# Altium integrated library TI Data Converters Analog to Digital Converter.IntLib: 2198 symbols (part 71 of 164)
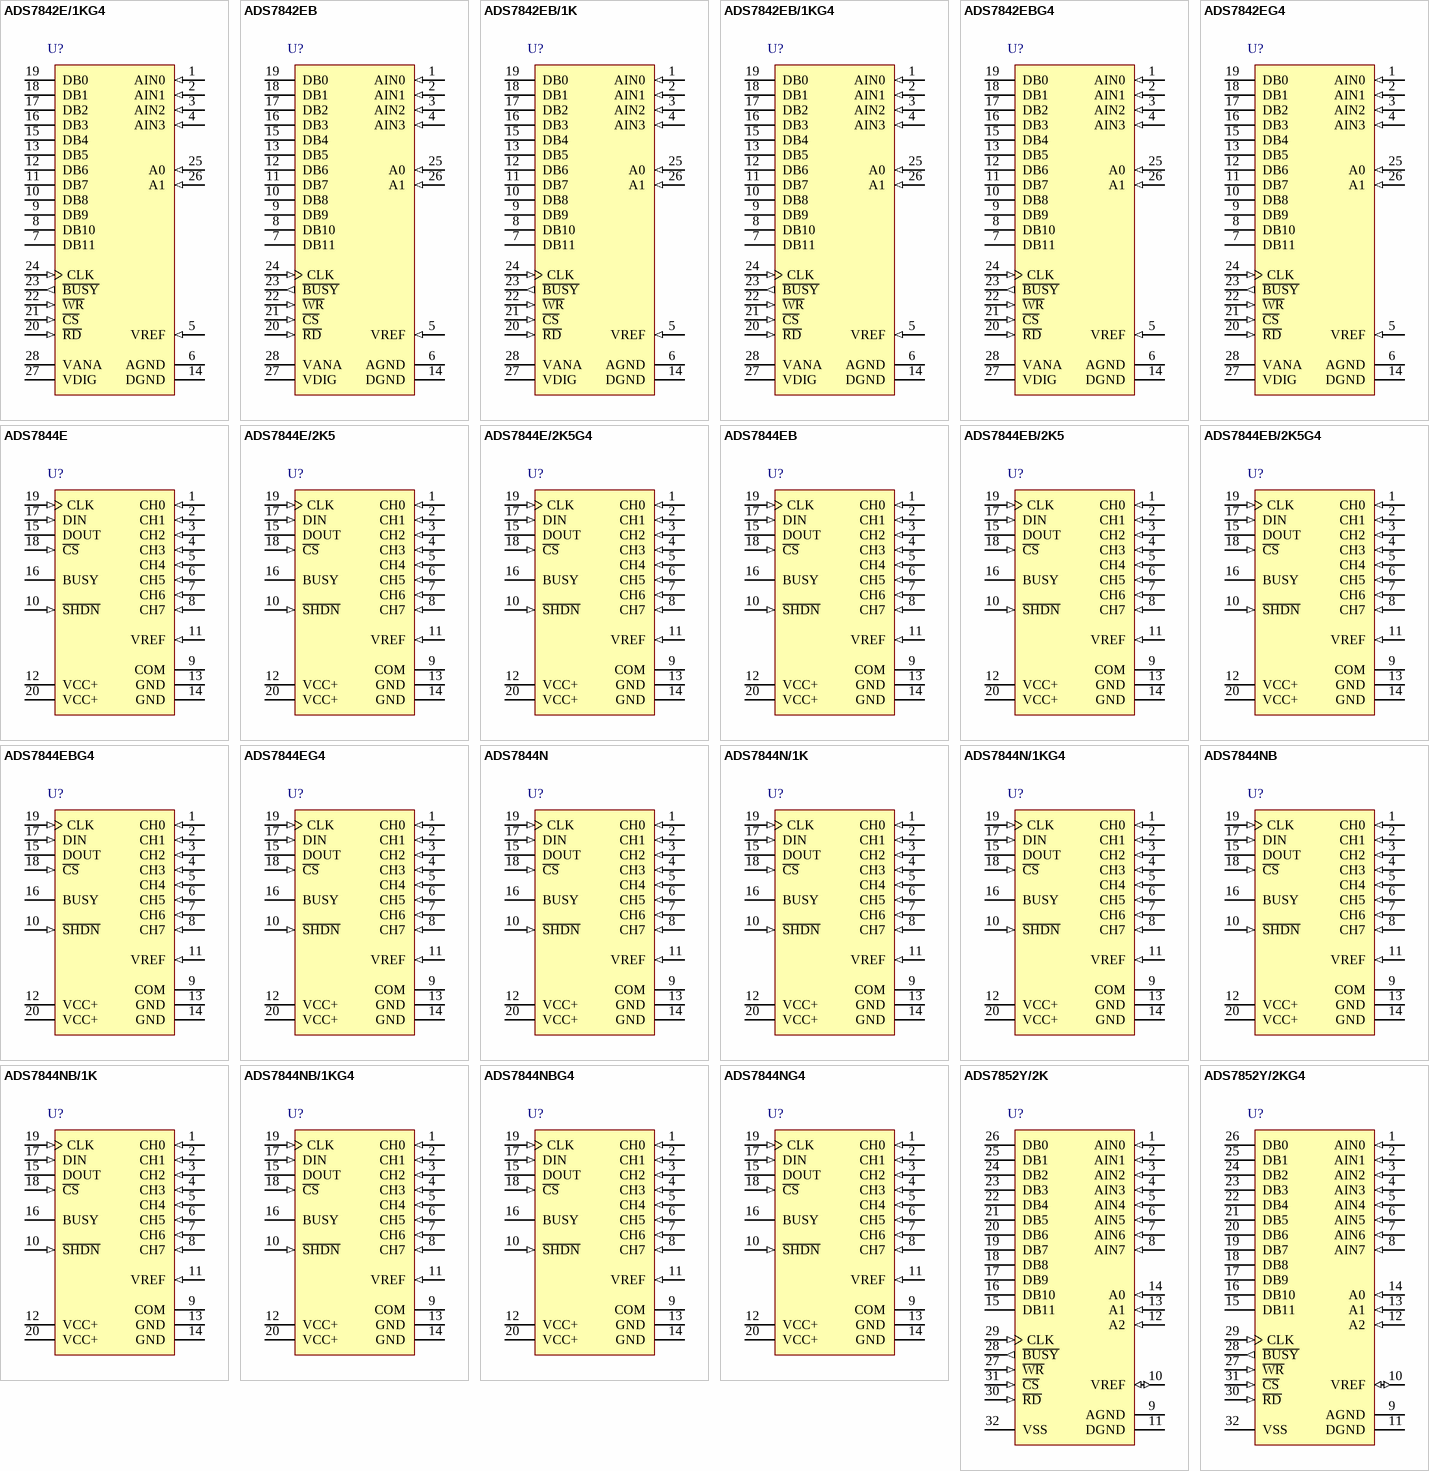
[diagram p196: symbols ADS7842E/1KG4 to ADS7852Y/2KG4]

## ADS7844E
designator U?
12-Bit, 8-Channel Serial Output Sampling ADC, -40 to 85 degC, 20-pin SOP (DBQ20), Green (RoHS & no Sb/Br); Manufacturer: Texas Instruments; PartNumber: ADS7844E; # Input Channels: 8; Analog Voltage AV/DD(Max)(V): 5.25; Analog Voltage AV/DD(Min)(V): 2.7; Architecture: SAR; INL(Max)(+/-LSB): 2; Interface: Serial SPI; Resolution(Bits): 12; Sample Rate (max)(SPS): 200K; SFDR(dB): 76; SINAD(dB): 71; SNR(dB): 72; SubFamily: Precision ADC (<=10MSPS); DatasheetVersion: SBAS100A; PackageVersion: 4073301-3/H, 10/2008; PackageReference: DBQ20; PackageDescription: 20-Pin Plastic Small Outline, Body 8.65 x 3.9 mm, Pitch 0.635 mm; Supplier 1: Digi-Key; Supplier Part Number 1: TLV2548CPWRG4-ND; Digital Supply(Max)(V): 5.25; Digital Supply(Min)(V): 2.7; Eco-Plan: Green (RoHS & no Sb/Br); Mounting Technology: Surface Mount; Code_JEDEC: MO-137; ComponentLink1Description: Manufacturer URL; ComponentLink1URL: http://www.ti.com/; ComponentLink2Description: Datasheet; ComponentLink2URL: http://www.ti.com/general/docs/lit/getliterature.tsp?genericPartNumber=ADS7844&fileType=pdf; ComponentLink3Description: Package Specification; ComponentLink3URL: http://www.ti.com/litv/pdf/mpds210a
footprint TI-DBQ20_N (SOP, 20-Leads, Body 8.65x3.9mm, Pitch 0.635mm, IPC Medium Density)
footprint TI-DBQ20_L (SOP, 20-Leads, Body 8.65x3.9mm, Pitch 0.635mm, IPC High Density)
footprint TI-DBQ20_M (SOP, 20-Leads, Body 8.65x3.9mm, Pitch 0.635mm, IPC Low Density)
pins: 1 CH0 (in) "Analog Input Channel 0.", 2 CH1 (in) "Analog Input Channel 1.", 3 CH2 (in) "Analog Input Channel 2.", 4 CH3 (in) "Analog Input Channel 3.", 5 CH4 (in) "Analog Input Channel 4.", 6 CH5 (in) "Analog Input Channel 5.", 7 CH6 (in) "Analog Input Channel 6.", 8 CH7 (in) "Analog Input Channel 7.", 9 COM (power) "Ground reference for analog inputs. Sets zero code voltage in single ended mode. Connect this pin to ground or ground reference point.", 10 ~{SHDN} (in) "Shutdown. When LOW, the device enters a very low power shutdown mode.", 11 VREF (in) "Voltage Reference Input. See Specification Table for ranges.", 12 VCC+ (power) "Power Supply, 2.7V to 5V.", 13 GND (power) "Ground", 14 GND (power) "Ground", 15 DOUT (hiz) "Serial Data Output. Data is shifted on the falling edge of DCLK. This output is high impedance when C\S\ is high.", 16 BUSY (hiz) "Busy Output. Busy goes low when the DIN control bits are being read and also when the device is converting. The Output is high impedance when C\S\ is High.", 17 DIN (in) "Serial Data Input. If C\S\ is LOW, data is latched on rising edge of DCLK.", 18 ~{CS} (in) "Chip Select Input. Active LOW. Data will not be clocked into DIN unless C\S\ is low. When C\S\ is high DOUT is high impedance", 19 CLK (in) "External Clock Input. The clock speed determines the conversion rate by the equation fCLK = 16 x fSAMPLE.", 20 VCC+ (power) "Power Supply"

## ADS7844E/2K5
designator U?
12-Bit, 8-Channel Serial Output Sampling ADC, -40 to 85 degC, 20-pin SOP (DBQ20), Green (RoHS & no Sb/Br); Manufacturer: Texas Instruments; PartNumber: ADS7844E/2K5; # Input Channels: 8; Analog Voltage AV/DD(Max)(V): 5.25; Analog Voltage AV/DD(Min)(V): 2.7; Architecture: SAR; INL(Max)(+/-LSB): 2; Interface: Serial SPI; Resolution(Bits): 12; Sample Rate (max)(SPS): 200K; SFDR(dB): 76; SINAD(dB): 71; SNR(dB): 72; SubFamily: Precision ADC (<=10MSPS); DatasheetVersion: SBAS100A; PackageVersion: 4073301-3/H, 10/2008; PackageReference: DBQ20; PackageDescription: 20-Pin Plastic Small Outline, Body 8.65 x 3.9 mm, Pitch 0.635 mm; Supplier 1: Digi-Key; Supplier Part Number 1: 296-2986-5-ND; Digital Supply(Max)(V): 5.25; Digital Supply(Min)(V): 2.7; Eco-Plan: Green (RoHS & no Sb/Br); Mounting Technology: Surface Mount; Code_JEDEC: MO-137; ComponentLink1Description: Manufacturer URL; ComponentLink1URL: http://www.ti.com/; ComponentLink2Description: Datasheet; ComponentLink2URL: http://www.ti.com/general/docs/lit/getliterature.tsp?genericPartNumber=ADS7844&fileType=pdf; ComponentLink3Description: Package Specification; ComponentLink3URL: http://www.ti.com/litv/pdf/mpds210a
footprint TI-DBQ20_N (SOP, 20-Leads, Body 8.65x3.9mm, Pitch 0.635mm, IPC Medium Density)
footprint TI-DBQ20_L (SOP, 20-Leads, Body 8.65x3.9mm, Pitch 0.635mm, IPC High Density)
footprint TI-DBQ20_M (SOP, 20-Leads, Body 8.65x3.9mm, Pitch 0.635mm, IPC Low Density)
pins: 1 CH0 (in) "Analog Input Channel 0.", 2 CH1 (in) "Analog Input Channel 1.", 3 CH2 (in) "Analog Input Channel 2.", 4 CH3 (in) "Analog Input Channel 3.", 5 CH4 (in) "Analog Input Channel 4.", 6 CH5 (in) "Analog Input Channel 5.", 7 CH6 (in) "Analog Input Channel 6.", 8 CH7 (in) "Analog Input Channel 7.", 9 COM (power) "Ground reference for analog inputs. Sets zero code voltage in single ended mode. Connect this pin to ground or ground reference point.", 10 ~{SHDN} (in) "Shutdown. When LOW, the device enters a very low power shutdown mode.", 11 VREF (in) "Voltage Reference Input. See Specification Table for ranges.", 12 VCC+ (power) "Power Supply, 2.7V to 5V.", 13 GND (power) "Ground", 14 GND (power) "Ground", 15 DOUT (hiz) "Serial Data Output. Data is shifted on the falling edge of DCLK. This output is high impedance when C\S\ is high.", 16 BUSY (hiz) "Busy Output. Busy goes low when the DIN control bits are being read and also when the device is converting. The Output is high impedance when C\S\ is High.", 17 DIN (in) "Serial Data Input. If C\S\ is LOW, data is latched on rising edge of DCLK.", 18 ~{CS} (in) "Chip Select Input. Active LOW. Data will not be clocked into DIN unless C\S\ is low. When C\S\ is high DOUT is high impedance", 19 CLK (in) "External Clock Input. The clock speed determines the conversion rate by the equation fCLK = 16 x fSAMPLE.", 20 VCC+ (power) "Power Supply"

## ADS7844E/2K5G4
designator U?
12-Bit, 8-Channel Serial Output Sampling ADC, -40 to 85 degC, 20-pin SOP (DBQ20), Green (RoHS & no Sb/Br); Manufacturer: Texas Instruments; PartNumber: ADS7844E/2K5G4; # Input Channels: 8; Analog Voltage AV/DD(Max)(V): 5.25; Analog Voltage AV/DD(Min)(V): 2.7; Architecture: SAR; INL(Max)(+/-LSB): 2; Interface: Serial SPI; Resolution(Bits): 12; Sample Rate (max)(SPS): 200K; SFDR(dB): 76; SINAD(dB): 71; SNR(dB): 72; SubFamily: Precision ADC (<=10MSPS); DatasheetVersion: SBAS100A; PackageVersion: 4073301-3/H, 10/2008; PackageReference: DBQ20; PackageDescription: 20-Pin Plastic Small Outline, Body 8.65 x 3.9 mm, Pitch 0.635 mm; Supplier 1: Digi-Key; Supplier Part Number 1: TLV2548IDWG4-ND; Digital Supply(Max)(V): 5.25; Digital Supply(Min)(V): 2.7; Eco-Plan: Green (RoHS & no Sb/Br); Mounting Technology: Surface Mount; Code_JEDEC: MO-137; ComponentLink1Description: Manufacturer URL; ComponentLink1URL: http://www.ti.com/; ComponentLink2Description: Datasheet; ComponentLink2URL: http://www.ti.com/general/docs/lit/getliterature.tsp?genericPartNumber=ADS7844&fileType=pdf; ComponentLink3Description: Package Specification; ComponentLink3URL: http://www.ti.com/litv/pdf/mpds210a
footprint TI-DBQ20_N (SOP, 20-Leads, Body 8.65x3.9mm, Pitch 0.635mm, IPC Medium Density)
footprint TI-DBQ20_L (SOP, 20-Leads, Body 8.65x3.9mm, Pitch 0.635mm, IPC High Density)
footprint TI-DBQ20_M (SOP, 20-Leads, Body 8.65x3.9mm, Pitch 0.635mm, IPC Low Density)
pins: 1 CH0 (in) "Analog Input Channel 0.", 2 CH1 (in) "Analog Input Channel 1.", 3 CH2 (in) "Analog Input Channel 2.", 4 CH3 (in) "Analog Input Channel 3.", 5 CH4 (in) "Analog Input Channel 4.", 6 CH5 (in) "Analog Input Channel 5.", 7 CH6 (in) "Analog Input Channel 6.", 8 CH7 (in) "Analog Input Channel 7.", 9 COM (power) "Ground reference for analog inputs. Sets zero code voltage in single ended mode. Connect this pin to ground or ground reference point.", 10 ~{SHDN} (in) "Shutdown. When LOW, the device enters a very low power shutdown mode.", 11 VREF (in) "Voltage Reference Input. See Specification Table for ranges.", 12 VCC+ (power) "Power Supply, 2.7V to 5V.", 13 GND (power) "Ground", 14 GND (power) "Ground", 15 DOUT (hiz) "Serial Data Output. Data is shifted on the falling edge of DCLK. This output is high impedance when C\S\ is high.", 16 BUSY (hiz) "Busy Output. Busy goes low when the DIN control bits are being read and also when the device is converting. The Output is high impedance when C\S\ is High.", 17 DIN (in) "Serial Data Input. If C\S\ is LOW, data is latched on rising edge of DCLK.", 18 ~{CS} (in) "Chip Select Input. Active LOW. Data will not be clocked into DIN unless C\S\ is low. When C\S\ is high DOUT is high impedance", 19 CLK (in) "External Clock Input. The clock speed determines the conversion rate by the equation fCLK = 16 x fSAMPLE.", 20 VCC+ (power) "Power Supply"

## ADS7844EB
designator U?
12-Bit, 8-Channel Serial Output Sampling ADC, -40 to 85 degC, 20-pin SOP (DBQ20), Green (RoHS & no Sb/Br); Manufacturer: Texas Instruments; PartNumber: ADS7844EB; # Input Channels: 8; Analog Voltage AV/DD(Max)(V): 5.25; Analog Voltage AV/DD(Min)(V): 2.7; Architecture: SAR; INL(Max)(+/-LSB): 1; Interface: Serial SPI; Resolution(Bits): 12; Sample Rate (max)(SPS): 200K; SFDR(dB): 78; SINAD(dB): 72; SubFamily: Precision ADC (<=10MSPS); DatasheetVersion: SBAS100A; PackageVersion: 4073301-3/H, 10/2008; PackageReference: DBQ20; PackageDescription: 20-Pin Plastic Small Outline, Body 8.65 x 3.9 mm, Pitch 0.635 mm; Supplier 1: Digi-Key; Supplier Part Number 1: TLV2548IDWR-ND; Digital Supply(Max)(V): 5.25; Digital Supply(Min)(V): 2.7; Eco-Plan: Green (RoHS & no Sb/Br); SNR(dB): 72; Mounting Technology: Surface Mount; Code_JEDEC: MO-137; ComponentLink1Description: Manufacturer URL; ComponentLink1URL: http://www.ti.com/; ComponentLink2Description: Datasheet; ComponentLink2URL: http://www.ti.com/general/docs/lit/getliterature.tsp?genericPartNumber=ADS7844&fileType=pdf; ComponentLink3Description: Package Specification; ComponentLink3URL: http://www.ti.com/litv/pdf/mpds210a
footprint TI-DBQ20_N (SOP, 20-Leads, Body 8.65x3.9mm, Pitch 0.635mm, IPC Medium Density)
footprint TI-DBQ20_L (SOP, 20-Leads, Body 8.65x3.9mm, Pitch 0.635mm, IPC High Density)
footprint TI-DBQ20_M (SOP, 20-Leads, Body 8.65x3.9mm, Pitch 0.635mm, IPC Low Density)
pins: 1 CH0 (in) "Analog Input Channel 0.", 2 CH1 (in) "Analog Input Channel 1.", 3 CH2 (in) "Analog Input Channel 2.", 4 CH3 (in) "Analog Input Channel 3.", 5 CH4 (in) "Analog Input Channel 4.", 6 CH5 (in) "Analog Input Channel 5.", 7 CH6 (in) "Analog Input Channel 6.", 8 CH7 (in) "Analog Input Channel 7.", 9 COM (power) "Ground reference for analog inputs. Sets zero code voltage in single ended mode. Connect this pin to ground or ground reference point.", 10 ~{SHDN} (in) "Shutdown. When LOW, the device enters a very low power shutdown mode.", 11 VREF (in) "Voltage Reference Input. See Specification Table for ranges.", 12 VCC+ (power) "Power Supply, 2.7V to 5V.", 13 GND (power) "Ground", 14 GND (power) "Ground", 15 DOUT (hiz) "Serial Data Output. Data is shifted on the falling edge of DCLK. This output is high impedance when C\S\ is high.", 16 BUSY (hiz) "Busy Output. Busy goes low when the DIN control bits are being read and also when the device is converting. The Output is high impedance when C\S\ is High.", 17 DIN (in) "Serial Data Input. If C\S\ is LOW, data is latched on rising edge of DCLK.", 18 ~{CS} (in) "Chip Select Input. Active LOW. Data will not be clocked into DIN unless C\S\ is low. When C\S\ is high DOUT is high impedance", 19 CLK (in) "External Clock Input. The clock speed determines the conversion rate by the equation fCLK = 16 x fSAMPLE.", 20 VCC+ (power) "Power Supply"

## ADS7844EB/2K5
designator U?
12-Bit, 8-Channel Serial Output Sampling ADC, -40 to 85 degC, 20-pin SOP (DBQ20), Green (RoHS & no Sb/Br); Manufacturer: Texas Instruments; PartNumber: ADS7844EB/2K5; # Input Channels: 8; Analog Voltage AV/DD(Max)(V): 5.25; Analog Voltage AV/DD(Min)(V): 2.7; Architecture: SAR; INL(Max)(+/-LSB): 1; Interface: Serial SPI; Resolution(Bits): 12; Sample Rate (max)(SPS): 200K; SFDR(dB): 78; SINAD(dB): 72; SubFamily: Precision ADC (<=10MSPS); DatasheetVersion: SBAS100A; PackageVersion: 4073301-3/H, 10/2008; PackageReference: DBQ20; PackageDescription: 20-Pin Plastic Small Outline, Body 8.65 x 3.9 mm, Pitch 0.635 mm; Supplier 1: Digi-Key; Supplier Part Number 1: TLV2548IDWRG4-ND; Digital Supply(Max)(V): 5.25; Digital Supply(Min)(V): 2.7; Eco-Plan: Green (RoHS & no Sb/Br); SNR(dB): 72; Mounting Technology: Surface Mount; Code_JEDEC: MO-137; ComponentLink1Description: Manufacturer URL; ComponentLink1URL: http://www.ti.com/; ComponentLink2Description: Datasheet; ComponentLink2URL: http://www.ti.com/general/docs/lit/getliterature.tsp?genericPartNumber=ADS7844&fileType=pdf; ComponentLink3Description: Package Specification; ComponentLink3URL: http://www.ti.com/litv/pdf/mpds210a
footprint TI-DBQ20_N (SOP, 20-Leads, Body 8.65x3.9mm, Pitch 0.635mm, IPC Medium Density)
footprint TI-DBQ20_L (SOP, 20-Leads, Body 8.65x3.9mm, Pitch 0.635mm, IPC High Density)
footprint TI-DBQ20_M (SOP, 20-Leads, Body 8.65x3.9mm, Pitch 0.635mm, IPC Low Density)
pins: 1 CH0 (in) "Analog Input Channel 0.", 2 CH1 (in) "Analog Input Channel 1.", 3 CH2 (in) "Analog Input Channel 2.", 4 CH3 (in) "Analog Input Channel 3.", 5 CH4 (in) "Analog Input Channel 4.", 6 CH5 (in) "Analog Input Channel 5.", 7 CH6 (in) "Analog Input Channel 6.", 8 CH7 (in) "Analog Input Channel 7.", 9 COM (power) "Ground reference for analog inputs. Sets zero code voltage in single ended mode. Connect this pin to ground or ground reference point.", 10 ~{SHDN} (in) "Shutdown. When LOW, the device enters a very low power shutdown mode.", 11 VREF (in) "Voltage Reference Input. See Specification Table for ranges.", 12 VCC+ (power) "Power Supply, 2.7V to 5V.", 13 GND (power) "Ground", 14 GND (power) "Ground", 15 DOUT (hiz) "Serial Data Output. Data is shifted on the falling edge of DCLK. This output is high impedance when C\S\ is high.", 16 BUSY (hiz) "Busy Output. Busy goes low when the DIN control bits are being read and also when the device is converting. The Output is high impedance when C\S\ is High.", 17 DIN (in) "Serial Data Input. If C\S\ is LOW, data is latched on rising edge of DCLK.", 18 ~{CS} (in) "Chip Select Input. Active LOW. Data will not be clocked into DIN unless C\S\ is low. When C\S\ is high DOUT is high impedance", 19 CLK (in) "External Clock Input. The clock speed determines the conversion rate by the equation fCLK = 16 x fSAMPLE.", 20 VCC+ (power) "Power Supply"

## ADS7844EB/2K5G4
designator U?
12-Bit, 8-Channel Serial Output Sampling ADC, -40 to 85 degC, 20-pin SOP (DBQ20), Green (RoHS & no Sb/Br); Manufacturer: Texas Instruments; PartNumber: ADS7844EB/2K5G4; # Input Channels: 8; Analog Voltage AV/DD(Max)(V): 5.25; Analog Voltage AV/DD(Min)(V): 2.7; Architecture: SAR; INL(Max)(+/-LSB): 1; Interface: Serial SPI; Resolution(Bits): 12; Sample Rate (max)(SPS): 200K; SFDR(dB): 78; SINAD(dB): 72; SubFamily: Precision ADC (<=10MSPS); DatasheetVersion: SBAS100A; PackageVersion: 4073301-3/H, 10/2008; PackageReference: DBQ20; PackageDescription: 20-Pin Plastic Small Outline, Body 8.65 x 3.9 mm, Pitch 0.635 mm; Supplier 1: Digi-Key; Supplier Part Number 1: 296-2987-5-ND; Digital Supply(Max)(V): 5.25; Digital Supply(Min)(V): 2.7; Eco-Plan: Green (RoHS & no Sb/Br); SNR(dB): 72; Mounting Technology: Surface Mount; Code_JEDEC: MO-137; ComponentLink1Description: Manufacturer URL; ComponentLink1URL: http://www.ti.com/; ComponentLink2Description: Datasheet; ComponentLink2URL: http://www.ti.com/general/docs/lit/getliterature.tsp?genericPartNumber=ADS7844&fileType=pdf; ComponentLink3Description: Package Specification; ComponentLink3URL: http://www.ti.com/litv/pdf/mpds210a
footprint TI-DBQ20_N (SOP, 20-Leads, Body 8.65x3.9mm, Pitch 0.635mm, IPC Medium Density)
footprint TI-DBQ20_L (SOP, 20-Leads, Body 8.65x3.9mm, Pitch 0.635mm, IPC High Density)
footprint TI-DBQ20_M (SOP, 20-Leads, Body 8.65x3.9mm, Pitch 0.635mm, IPC Low Density)
pins: 1 CH0 (in) "Analog Input Channel 0.", 2 CH1 (in) "Analog Input Channel 1.", 3 CH2 (in) "Analog Input Channel 2.", 4 CH3 (in) "Analog Input Channel 3.", 5 CH4 (in) "Analog Input Channel 4.", 6 CH5 (in) "Analog Input Channel 5.", 7 CH6 (in) "Analog Input Channel 6.", 8 CH7 (in) "Analog Input Channel 7.", 9 COM (power) "Ground reference for analog inputs. Sets zero code voltage in single ended mode. Connect this pin to ground or ground reference point.", 10 ~{SHDN} (in) "Shutdown. When LOW, the device enters a very low power shutdown mode.", 11 VREF (in) "Voltage Reference Input. See Specification Table for ranges.", 12 VCC+ (power) "Power Supply, 2.7V to 5V.", 13 GND (power) "Ground", 14 GND (power) "Ground", 15 DOUT (hiz) "Serial Data Output. Data is shifted on the falling edge of DCLK. This output is high impedance when C\S\ is high.", 16 BUSY (hiz) "Busy Output. Busy goes low when the DIN control bits are being read and also when the device is converting. The Output is high impedance when C\S\ is High.", 17 DIN (in) "Serial Data Input. If C\S\ is LOW, data is latched on rising edge of DCLK.", 18 ~{CS} (in) "Chip Select Input. Active LOW. Data will not be clocked into DIN unless C\S\ is low. When C\S\ is high DOUT is high impedance", 19 CLK (in) "External Clock Input. The clock speed determines the conversion rate by the equation fCLK = 16 x fSAMPLE.", 20 VCC+ (power) "Power Supply"

## ADS7844EBG4
designator U?
12-Bit, 8-Channel Serial Output Sampling ADC, -40 to 85 degC, 20-pin SOP (DBQ20), Green (RoHS & no Sb/Br); Manufacturer: Texas Instruments; PartNumber: ADS7844EBG4; # Input Channels: 8; Analog Voltage AV/DD(Max)(V): 5.25; Analog Voltage AV/DD(Min)(V): 2.7; Architecture: SAR; INL(Max)(+/-LSB): 1; Interface: Serial SPI; Resolution(Bits): 12; Sample Rate (max)(SPS): 200K; SFDR(dB): 78; SINAD(dB): 72; SubFamily: Precision ADC (<=10MSPS); DatasheetVersion: SBAS100A; PackageVersion: 4073301-3/H, 10/2008; PackageReference: DBQ20; PackageDescription: 20-Pin Plastic Small Outline, Body 8.65 x 3.9 mm, Pitch 0.635 mm; Supplier 1: Digi-Key; Supplier Part Number 1: TLV2548IPWG4-ND; Digital Supply(Max)(V): 5.25; Digital Supply(Min)(V): 2.7; Eco-Plan: Green (RoHS & no Sb/Br); SNR(dB): 72; Mounting Technology: Surface Mount; Code_JEDEC: MO-137; ComponentLink1Description: Manufacturer URL; ComponentLink1URL: http://www.ti.com/; ComponentLink2Description: Datasheet; ComponentLink2URL: http://www.ti.com/general/docs/lit/getliterature.tsp?genericPartNumber=ADS7844&fileType=pdf; ComponentLink3Description: Package Specification; ComponentLink3URL: http://www.ti.com/litv/pdf/mpds210a
footprint TI-DBQ20_N (SOP, 20-Leads, Body 8.65x3.9mm, Pitch 0.635mm, IPC Medium Density)
footprint TI-DBQ20_L (SOP, 20-Leads, Body 8.65x3.9mm, Pitch 0.635mm, IPC High Density)
footprint TI-DBQ20_M (SOP, 20-Leads, Body 8.65x3.9mm, Pitch 0.635mm, IPC Low Density)
pins: 1 CH0 (in) "Analog Input Channel 0.", 2 CH1 (in) "Analog Input Channel 1.", 3 CH2 (in) "Analog Input Channel 2.", 4 CH3 (in) "Analog Input Channel 3.", 5 CH4 (in) "Analog Input Channel 4.", 6 CH5 (in) "Analog Input Channel 5.", 7 CH6 (in) "Analog Input Channel 6.", 8 CH7 (in) "Analog Input Channel 7.", 9 COM (power) "Ground reference for analog inputs. Sets zero code voltage in single ended mode. Connect this pin to ground or ground reference point.", 10 ~{SHDN} (in) "Shutdown. When LOW, the device enters a very low power shutdown mode.", 11 VREF (in) "Voltage Reference Input. See Specification Table for ranges.", 12 VCC+ (power) "Power Supply, 2.7V to 5V.", 13 GND (power) "Ground", 14 GND (power) "Ground", 15 DOUT (hiz) "Serial Data Output. Data is shifted on the falling edge of DCLK. This output is high impedance when C\S\ is high.", 16 BUSY (hiz) "Busy Output. Busy goes low when the DIN control bits are being read and also when the device is converting. The Output is high impedance when C\S\ is High.", 17 DIN (in) "Serial Data Input. If C\S\ is LOW, data is latched on rising edge of DCLK.", 18 ~{CS} (in) "Chip Select Input. Active LOW. Data will not be clocked into DIN unless C\S\ is low. When C\S\ is high DOUT is high impedance", 19 CLK (in) "External Clock Input. The clock speed determines the conversion rate by the equation fCLK = 16 x fSAMPLE.", 20 VCC+ (power) "Power Supply"

## ADS7844EG4
designator U?
12-Bit, 8-Channel Serial Output Sampling ADC, -40 to 85 degC, 20-pin SOP (DBQ20), Green (RoHS & no Sb/Br); Manufacturer: Texas Instruments; PartNumber: ADS7844EG4; # Input Channels: 8; Analog Voltage AV/DD(Max)(V): 5.25; Analog Voltage AV/DD(Min)(V): 2.7; Architecture: SAR; INL(Max)(+/-LSB): 2; Interface: Serial SPI; Resolution(Bits): 12; Sample Rate (max)(SPS): 200K; SFDR(dB): 76; SINAD(dB): 71; SNR(dB): 72; SubFamily: Precision ADC (<=10MSPS); DatasheetVersion: SBAS100A; PackageVersion: 4073301-3/H, 10/2008; PackageReference: DBQ20; PackageDescription: 20-Pin Plastic Small Outline, Body 8.65 x 3.9 mm, Pitch 0.635 mm; Supplier 1: Digi-Key; Supplier Part Number 1: TLV2548IPWR-ND; Digital Supply(Max)(V): 5.25; Digital Supply(Min)(V): 2.7; Eco-Plan: Green (RoHS & no Sb/Br); Mounting Technology: Surface Mount; Code_JEDEC: MO-137; ComponentLink1Description: Manufacturer URL; ComponentLink1URL: http://www.ti.com/; ComponentLink2Description: Datasheet; ComponentLink2URL: http://www.ti.com/general/docs/lit/getliterature.tsp?genericPartNumber=ADS7844&fileType=pdf; ComponentLink3Description: Package Specification; ComponentLink3URL: http://www.ti.com/litv/pdf/mpds210a
footprint TI-DBQ20_N (SOP, 20-Leads, Body 8.65x3.9mm, Pitch 0.635mm, IPC Medium Density)
footprint TI-DBQ20_L (SOP, 20-Leads, Body 8.65x3.9mm, Pitch 0.635mm, IPC High Density)
footprint TI-DBQ20_M (SOP, 20-Leads, Body 8.65x3.9mm, Pitch 0.635mm, IPC Low Density)
pins: 1 CH0 (in) "Analog Input Channel 0.", 2 CH1 (in) "Analog Input Channel 1.", 3 CH2 (in) "Analog Input Channel 2.", 4 CH3 (in) "Analog Input Channel 3.", 5 CH4 (in) "Analog Input Channel 4.", 6 CH5 (in) "Analog Input Channel 5.", 7 CH6 (in) "Analog Input Channel 6.", 8 CH7 (in) "Analog Input Channel 7.", 9 COM (power) "Ground reference for analog inputs. Sets zero code voltage in single ended mode. Connect this pin to ground or ground reference point.", 10 ~{SHDN} (in) "Shutdown. When LOW, the device enters a very low power shutdown mode.", 11 VREF (in) "Voltage Reference Input. See Specification Table for ranges.", 12 VCC+ (power) "Power Supply, 2.7V to 5V.", 13 GND (power) "Ground", 14 GND (power) "Ground", 15 DOUT (hiz) "Serial Data Output. Data is shifted on the falling edge of DCLK. This output is high impedance when C\S\ is high.", 16 BUSY (hiz) "Busy Output. Busy goes low when the DIN control bits are being read and also when the device is converting. The Output is high impedance when C\S\ is High.", 17 DIN (in) "Serial Data Input. If C\S\ is LOW, data is latched on rising edge of DCLK.", 18 ~{CS} (in) "Chip Select Input. Active LOW. Data will not be clocked into DIN unless C\S\ is low. When C\S\ is high DOUT is high impedance", 19 CLK (in) "External Clock Input. The clock speed determines the conversion rate by the equation fCLK = 16 x fSAMPLE.", 20 VCC+ (power) "Power Supply"

## ADS7844N
designator U?
12-Bit, 8-Channel Serial Output Sampling ADC, -40 to 85 degC, 20-pin SOP (DB20), Green (RoHS & no Sb/Br); Manufacturer: Texas Instruments; PartNumber: ADS7844N; # Input Channels: 8; Analog Voltage AV/DD(Max)(V): 5.25; Analog Voltage AV/DD(Min)(V): 2.7; Architecture: SAR; INL(Max)(+/-LSB): 2; Interface: Serial SPI; Resolution(Bits): 12; Sample Rate (max)(SPS): 200K; SFDR(dB): 76; SINAD(dB): 71; SNR(dB): 72; SubFamily: Precision ADC (<=10MSPS); DatasheetVersion: SBAS100A; PackageVersion: 4040065/E, 12/2001; PackageReference: DB20; PackageDescription: 20-Pin Plastic Small Outline, Body 5.3 x 7.2 mm, Pitch 0.65 mm; Supplier 1: Digi-Key; Supplier Part Number 1: TLV2548IPWRG4-ND; Digital Supply(Max)(V): 5.25; Digital Supply(Min)(V): 2.7; Eco-Plan: Green (RoHS & no Sb/Br); Mounting Technology: Surface Mount; Code_JEDEC: MO-150; ComponentLink1Description: Manufacturer URL; ComponentLink1URL: http://www.ti.com/; ComponentLink2Description: Datasheet; ComponentLink2URL: http://www.ti.com/general/docs/lit/getliterature.tsp?genericPartNumber=ADS7844&fileType=pdf; ComponentLink3Description: Package Specification; ComponentLink3URL: http://www.ti.com/lit/ml/msso002e/msso002e.pdf
footprint TI-DB20_N (SOP, 20-Leads, Body 7.2x5.3mm, Pitch 0.65mm, IPC Medium Density)
footprint TI-DB20_L (SOP, 20-Leads, Body 7.2x5.3mm, Pitch 0.65mm, IPC High Density)
footprint TI-DB20_M (SOP, 20-Leads, Body 7.2x5.3mm, Pitch 0.65mm, IPC Low Density)
pins: 1 CH0 (in) "Analog Input Channel 0.", 2 CH1 (in) "Analog Input Channel 1.", 3 CH2 (in) "Analog Input Channel 2.", 4 CH3 (in) "Analog Input Channel 3.", 5 CH4 (in) "Analog Input Channel 4.", 6 CH5 (in) "Analog Input Channel 5.", 7 CH6 (in) "Analog Input Channel 6.", 8 CH7 (in) "Analog Input Channel 7.", 9 COM (power) "Ground reference for analog inputs. Sets zero code voltage in single ended mode. Connect this pin to ground or ground reference point.", 10 ~{SHDN} (in) "Shutdown. When LOW, the device enters a very low power shutdown mode.", 11 VREF (in) "Voltage Reference Input. See Specification Table for ranges.", 12 VCC+ (power) "Power Supply, 2.7V to 5V.", 13 GND (power) "Ground", 14 GND (power) "Ground", 15 DOUT (hiz) "Serial Data Output. Data is shifted on the falling edge of DCLK. This output is high impedance when C\S\ is high.", 16 BUSY (hiz) "Busy Output. Busy goes low when the DIN control bits are being read and also when the device is converting. The Output is high impedance when C\S\ is High.", 17 DIN (in) "Serial Data Input. If C\S\ is LOW, data is latched on rising edge of DCLK.", 18 ~{CS} (in) "Chip Select Input. Active LOW. Data will not be clocked into DIN unless C\S\ is low. When C\S\ is high DOUT is high impedance", 19 CLK (in) "External Clock Input. The clock speed determines the conversion rate by the equation fCLK = 16 x fSAMPLE.", 20 VCC+ (power) "Power Supply"

## ADS7844N/1K
designator U?
12-Bit, 8-Channel Serial Output Sampling ADC, -40 to 85 degC, 20-pin SOP (DB20), Green (RoHS & no Sb/Br); Manufacturer: Texas Instruments; PartNumber: ADS7844N/1K; # Input Channels: 8; Analog Voltage AV/DD(Max)(V): 5.25; Analog Voltage AV/DD(Min)(V): 2.7; Architecture: SAR; INL(Max)(+/-LSB): 2; Interface: Serial SPI; Resolution(Bits): 12; Sample Rate (max)(SPS): 200K; SFDR(dB): 76; SINAD(dB): 71; SNR(dB): 72; SubFamily: Precision ADC (<=10MSPS); DatasheetVersion: SBAS100A; PackageVersion: 4040065/E, 12/2001; PackageReference: DB20; PackageDescription: 20-Pin Plastic Small Outline, Body 5.3 x 7.2 mm, Pitch 0.65 mm; Supplier 1: Digi-Key; Supplier Part Number 1: 296-2202-5-ND; Digital Supply(Max)(V): 5.25; Digital Supply(Min)(V): 2.7; Eco-Plan: Green (RoHS & no Sb/Br); Mounting Technology: Surface Mount; Code_JEDEC: MO-150; ComponentLink1Description: Manufacturer URL; ComponentLink1URL: http://www.ti.com/; ComponentLink2Description: Datasheet; ComponentLink2URL: http://www.ti.com/general/docs/lit/getliterature.tsp?genericPartNumber=ADS7844&fileType=pdf; ComponentLink3Description: Package Specification; ComponentLink3URL: http://www.ti.com/lit/ml/msso002e/msso002e.pdf
footprint TI-DB20_N (SOP, 20-Leads, Body 7.2x5.3mm, Pitch 0.65mm, IPC Medium Density)
footprint TI-DB20_L (SOP, 20-Leads, Body 7.2x5.3mm, Pitch 0.65mm, IPC High Density)
footprint TI-DB20_M (SOP, 20-Leads, Body 7.2x5.3mm, Pitch 0.65mm, IPC Low Density)
pins: 1 CH0 (in) "Analog Input Channel 0.", 2 CH1 (in) "Analog Input Channel 1.", 3 CH2 (in) "Analog Input Channel 2.", 4 CH3 (in) "Analog Input Channel 3.", 5 CH4 (in) "Analog Input Channel 4.", 6 CH5 (in) "Analog Input Channel 5.", 7 CH6 (in) "Analog Input Channel 6.", 8 CH7 (in) "Analog Input Channel 7.", 9 COM (power) "Ground reference for analog inputs. Sets zero code voltage in single ended mode. Connect this pin to ground or ground reference point.", 10 ~{SHDN} (in) "Shutdown. When LOW, the device enters a very low power shutdown mode.", 11 VREF (in) "Voltage Reference Input. See Specification Table for ranges.", 12 VCC+ (power) "Power Supply, 2.7V to 5V.", 13 GND (power) "Ground", 14 GND (power) "Ground", 15 DOUT (hiz) "Serial Data Output. Data is shifted on the falling edge of DCLK. This output is high impedance when C\S\ is high.", 16 BUSY (hiz) "Busy Output. Busy goes low when the DIN control bits are being read and also when the device is converting. The Output is high impedance when C\S\ is High.", 17 DIN (in) "Serial Data Input. If C\S\ is LOW, data is latched on rising edge of DCLK.", 18 ~{CS} (in) "Chip Select Input. Active LOW. Data will not be clocked into DIN unless C\S\ is low. When C\S\ is high DOUT is high impedance", 19 CLK (in) "External Clock Input. The clock speed determines the conversion rate by the equation fCLK = 16 x fSAMPLE.", 20 VCC+ (power) "Power Supply"

## ADS7844N/1KG4
designator U?
12-Bit, 8-Channel Serial Output Sampling ADC, -40 to 85 degC, 20-pin SOP (DB20), Green (RoHS & no Sb/Br); Manufacturer: Texas Instruments; PartNumber: ADS7844N/1KG4; # Input Channels: 8; Analog Voltage AV/DD(Max)(V): 5.25; Analog Voltage AV/DD(Min)(V): 2.7; Architecture: SAR; INL(Max)(+/-LSB): 2; Interface: Serial SPI; Resolution(Bits): 12; Sample Rate (max)(SPS): 200K; SFDR(dB): 76; SINAD(dB): 71; SNR(dB): 72; SubFamily: Precision ADC (<=10MSPS); DatasheetVersion: SBAS100A; PackageVersion: 4040065/E, 12/2001; PackageReference: DB20; PackageDescription: 20-Pin Plastic Small Outline, Body 5.3 x 7.2 mm, Pitch 0.65 mm; Supplier 1: Digi-Key; Supplier Part Number 1: TLV2544CDG4-ND; Digital Supply(Max)(V): 5.25; Digital Supply(Min)(V): 2.7; Eco-Plan: Green (RoHS & no Sb/Br); Mounting Technology: Surface Mount; Code_JEDEC: MO-150; ComponentLink1Description: Manufacturer URL; ComponentLink1URL: http://www.ti.com/; ComponentLink2Description: Datasheet; ComponentLink2URL: http://www.ti.com/general/docs/lit/getliterature.tsp?genericPartNumber=ADS7844&fileType=pdf; ComponentLink3Description: Package Specification; ComponentLink3URL: http://www.ti.com/lit/ml/msso002e/msso002e.pdf
footprint TI-DB20_N (SOP, 20-Leads, Body 7.2x5.3mm, Pitch 0.65mm, IPC Medium Density)
footprint TI-DB20_L (SOP, 20-Leads, Body 7.2x5.3mm, Pitch 0.65mm, IPC High Density)
footprint TI-DB20_M (SOP, 20-Leads, Body 7.2x5.3mm, Pitch 0.65mm, IPC Low Density)
pins: 1 CH0 (in) "Analog Input Channel 0.", 2 CH1 (in) "Analog Input Channel 1.", 3 CH2 (in) "Analog Input Channel 2.", 4 CH3 (in) "Analog Input Channel 3.", 5 CH4 (in) "Analog Input Channel 4.", 6 CH5 (in) "Analog Input Channel 5.", 7 CH6 (in) "Analog Input Channel 6.", 8 CH7 (in) "Analog Input Channel 7.", 9 COM (power) "Ground reference for analog inputs. Sets zero code voltage in single ended mode. Connect this pin to ground or ground reference point.", 10 ~{SHDN} (in) "Shutdown. When LOW, the device enters a very low power shutdown mode.", 11 VREF (in) "Voltage Reference Input. See Specification Table for ranges.", 12 VCC+ (power) "Power Supply, 2.7V to 5V.", 13 GND (power) "Ground", 14 GND (power) "Ground", 15 DOUT (hiz) "Serial Data Output. Data is shifted on the falling edge of DCLK. This output is high impedance when C\S\ is high.", 16 BUSY (hiz) "Busy Output. Busy goes low when the DIN control bits are being read and also when the device is converting. The Output is high impedance when C\S\ is High.", 17 DIN (in) "Serial Data Input. If C\S\ is LOW, data is latched on rising edge of DCLK.", 18 ~{CS} (in) "Chip Select Input. Active LOW. Data will not be clocked into DIN unless C\S\ is low. When C\S\ is high DOUT is high impedance", 19 CLK (in) "External Clock Input. The clock speed determines the conversion rate by the equation fCLK = 16 x fSAMPLE.", 20 VCC+ (power) "Power Supply"

## ADS7844NB
designator U?
12-Bit, 8-Channel Serial Output Sampling ADC, -40 to 85 degC, 20-pin SOP (DB20), Green (RoHS & no Sb/Br); Manufacturer: Texas Instruments; PartNumber: ADS7844NB; # Input Channels: 8; Analog Voltage AV/DD(Max)(V): 5.25; Analog Voltage AV/DD(Min)(V): 2.7; Architecture: SAR; INL(Max)(+/-LSB): 1; Interface: Serial SPI; Resolution(Bits): 12; Sample Rate (max)(SPS): 200K; SFDR(dB): 78; SINAD(dB): 72; SubFamily: Precision ADC (<=10MSPS); DatasheetVersion: SBAS100A; PackageVersion: 4040065/E, 12/2001; PackageReference: DB20; PackageDescription: 20-Pin Plastic Small Outline, Body 5.3 x 7.2 mm, Pitch 0.65 mm; Supplier 1: Digi-Key; Supplier Part Number 1: TLV2544CDR-ND; Digital Supply(Max)(V): 5.25; Digital Supply(Min)(V): 2.7; Eco-Plan: Green (RoHS & no Sb/Br); SNR(dB): 72; Mounting Technology: Surface Mount; Code_JEDEC: MO-150; ComponentLink1Description: Manufacturer URL; ComponentLink1URL: http://www.ti.com/; ComponentLink2Description: Datasheet; ComponentLink2URL: http://www.ti.com/general/docs/lit/getliterature.tsp?genericPartNumber=ADS7844&fileType=pdf; ComponentLink3Description: Package Specification; ComponentLink3URL: http://www.ti.com/lit/ml/msso002e/msso002e.pdf
footprint TI-DB20_N (SOP, 20-Leads, Body 7.2x5.3mm, Pitch 0.65mm, IPC Medium Density)
footprint TI-DB20_L (SOP, 20-Leads, Body 7.2x5.3mm, Pitch 0.65mm, IPC High Density)
footprint TI-DB20_M (SOP, 20-Leads, Body 7.2x5.3mm, Pitch 0.65mm, IPC Low Density)
pins: 1 CH0 (in) "Analog Input Channel 0.", 2 CH1 (in) "Analog Input Channel 1.", 3 CH2 (in) "Analog Input Channel 2.", 4 CH3 (in) "Analog Input Channel 3.", 5 CH4 (in) "Analog Input Channel 4.", 6 CH5 (in) "Analog Input Channel 5.", 7 CH6 (in) "Analog Input Channel 6.", 8 CH7 (in) "Analog Input Channel 7.", 9 COM (power) "Ground reference for analog inputs. Sets zero code voltage in single ended mode. Connect this pin to ground or ground reference point.", 10 ~{SHDN} (in) "Shutdown. When LOW, the device enters a very low power shutdown mode.", 11 VREF (in) "Voltage Reference Input. See Specification Table for ranges.", 12 VCC+ (power) "Power Supply, 2.7V to 5V.", 13 GND (power) "Ground", 14 GND (power) "Ground", 15 DOUT (hiz) "Serial Data Output. Data is shifted on the falling edge of DCLK. This output is high impedance when C\S\ is high.", 16 BUSY (hiz) "Busy Output. Busy goes low when the DIN control bits are being read and also when the device is converting. The Output is high impedance when C\S\ is High.", 17 DIN (in) "Serial Data Input. If C\S\ is LOW, data is latched on rising edge of DCLK.", 18 ~{CS} (in) "Chip Select Input. Active LOW. Data will not be clocked into DIN unless C\S\ is low. When C\S\ is high DOUT is high impedance", 19 CLK (in) "External Clock Input. The clock speed determines the conversion rate by the equation fCLK = 16 x fSAMPLE.", 20 VCC+ (power) "Power Supply"

## ADS7844NB/1K
designator U?
12-Bit, 8-Channel Serial Output Sampling ADC, -40 to 85 degC, 20-pin SOP (DB20), Green (RoHS & no Sb/Br); Manufacturer: Texas Instruments; PartNumber: ADS7844NB/1K; # Input Channels: 8; Analog Voltage AV/DD(Max)(V): 5.25; Analog Voltage AV/DD(Min)(V): 2.7; Architecture: SAR; INL(Max)(+/-LSB): 1; Interface: Serial SPI; Resolution(Bits): 12; Sample Rate (max)(SPS): 200K; SFDR(dB): 78; SINAD(dB): 72; SubFamily: Precision ADC (<=10MSPS); DatasheetVersion: SBAS100A; PackageVersion: 4040065/E, 12/2001; PackageReference: DB20; PackageDescription: 20-Pin Plastic Small Outline, Body 5.3 x 7.2 mm, Pitch 0.65 mm; Supplier 1: Digi-Key; Supplier Part Number 1: TLV2544CDRG4-ND; Digital Supply(Max)(V): 5.25; Digital Supply(Min)(V): 2.7; Eco-Plan: Green (RoHS & no Sb/Br); SNR(dB): 72; Mounting Technology: Surface Mount; Code_JEDEC: MO-150; ComponentLink1Description: Manufacturer URL; ComponentLink1URL: http://www.ti.com/; ComponentLink2Description: Datasheet; ComponentLink2URL: http://www.ti.com/general/docs/lit/getliterature.tsp?genericPartNumber=ADS7844&fileType=pdf; ComponentLink3Description: Package Specification; ComponentLink3URL: http://www.ti.com/lit/ml/msso002e/msso002e.pdf
footprint TI-DB20_N (SOP, 20-Leads, Body 7.2x5.3mm, Pitch 0.65mm, IPC Medium Density)
footprint TI-DB20_L (SOP, 20-Leads, Body 7.2x5.3mm, Pitch 0.65mm, IPC High Density)
footprint TI-DB20_M (SOP, 20-Leads, Body 7.2x5.3mm, Pitch 0.65mm, IPC Low Density)
pins: 1 CH0 (in) "Analog Input Channel 0.", 2 CH1 (in) "Analog Input Channel 1.", 3 CH2 (in) "Analog Input Channel 2.", 4 CH3 (in) "Analog Input Channel 3.", 5 CH4 (in) "Analog Input Channel 4.", 6 CH5 (in) "Analog Input Channel 5.", 7 CH6 (in) "Analog Input Channel 6.", 8 CH7 (in) "Analog Input Channel 7.", 9 COM (power) "Ground reference for analog inputs. Sets zero code voltage in single ended mode. Connect this pin to ground or ground reference point.", 10 ~{SHDN} (in) "Shutdown. When LOW, the device enters a very low power shutdown mode.", 11 VREF (in) "Voltage Reference Input. See Specification Table for ranges.", 12 VCC+ (power) "Power Supply, 2.7V to 5V.", 13 GND (power) "Ground", 14 GND (power) "Ground", 15 DOUT (hiz) "Serial Data Output. Data is shifted on the falling edge of DCLK. This output is high impedance when C\S\ is high.", 16 BUSY (hiz) "Busy Output. Busy goes low when the DIN control bits are being read and also when the device is converting. The Output is high impedance when C\S\ is High.", 17 DIN (in) "Serial Data Input. If C\S\ is LOW, data is latched on rising edge of DCLK.", 18 ~{CS} (in) "Chip Select Input. Active LOW. Data will not be clocked into DIN unless C\S\ is low. When C\S\ is high DOUT is high impedance", 19 CLK (in) "External Clock Input. The clock speed determines the conversion rate by the equation fCLK = 16 x fSAMPLE.", 20 VCC+ (power) "Power Supply"

## ADS7844NB/1KG4
designator U?
12-Bit, 8-Channel Serial Output Sampling ADC, -40 to 85 degC, 20-pin SOP (DB20), Green (RoHS & no Sb/Br); Manufacturer: Texas Instruments; PartNumber: ADS7844NB/1KG4; # Input Channels: 8; Analog Voltage AV/DD(Max)(V): 5.25; Analog Voltage AV/DD(Min)(V): 2.7; Architecture: SAR; INL(Max)(+/-LSB): 1; Interface: Serial SPI; Resolution(Bits): 12; Sample Rate (max)(SPS): 200K; SFDR(dB): 78; SINAD(dB): 72; SubFamily: Precision ADC (<=10MSPS); DatasheetVersion: SBAS100A; PackageVersion: 4040065/E, 12/2001; PackageReference: DB20; PackageDescription: 20-Pin Plastic Small Outline, Body 5.3 x 7.2 mm, Pitch 0.65 mm; Supplier 1: Digi-Key; Supplier Part Number 1: TLV2544CPW-ND; Digital Supply(Max)(V): 5.25; Digital Supply(Min)(V): 2.7; Eco-Plan: Green (RoHS & no Sb/Br); SNR(dB): 72; Mounting Technology: Surface Mount; Code_JEDEC: MO-150; ComponentLink1Description: Manufacturer URL; ComponentLink1URL: http://www.ti.com/; ComponentLink2Description: Datasheet; ComponentLink2URL: http://www.ti.com/general/docs/lit/getliterature.tsp?genericPartNumber=ADS7844&fileType=pdf; ComponentLink3Description: Package Specification; ComponentLink3URL: http://www.ti.com/lit/ml/msso002e/msso002e.pdf
footprint TI-DB20_N (SOP, 20-Leads, Body 7.2x5.3mm, Pitch 0.65mm, IPC Medium Density)
footprint TI-DB20_L (SOP, 20-Leads, Body 7.2x5.3mm, Pitch 0.65mm, IPC High Density)
footprint TI-DB20_M (SOP, 20-Leads, Body 7.2x5.3mm, Pitch 0.65mm, IPC Low Density)
pins: 1 CH0 (in) "Analog Input Channel 0.", 2 CH1 (in) "Analog Input Channel 1.", 3 CH2 (in) "Analog Input Channel 2.", 4 CH3 (in) "Analog Input Channel 3.", 5 CH4 (in) "Analog Input Channel 4.", 6 CH5 (in) "Analog Input Channel 5.", 7 CH6 (in) "Analog Input Channel 6.", 8 CH7 (in) "Analog Input Channel 7.", 9 COM (power) "Ground reference for analog inputs. Sets zero code voltage in single ended mode. Connect this pin to ground or ground reference point.", 10 ~{SHDN} (in) "Shutdown. When LOW, the device enters a very low power shutdown mode.", 11 VREF (in) "Voltage Reference Input. See Specification Table for ranges.", 12 VCC+ (power) "Power Supply, 2.7V to 5V.", 13 GND (power) "Ground", 14 GND (power) "Ground", 15 DOUT (hiz) "Serial Data Output. Data is shifted on the falling edge of DCLK. This output is high impedance when C\S\ is high.", 16 BUSY (hiz) "Busy Output. Busy goes low when the DIN control bits are being read and also when the device is converting. The Output is high impedance when C\S\ is High.", 17 DIN (in) "Serial Data Input. If C\S\ is LOW, data is latched on rising edge of DCLK.", 18 ~{CS} (in) "Chip Select Input. Active LOW. Data will not be clocked into DIN unless C\S\ is low. When C\S\ is high DOUT is high impedance", 19 CLK (in) "External Clock Input. The clock speed determines the conversion rate by the equation fCLK = 16 x fSAMPLE.", 20 VCC+ (power) "Power Supply"

## ADS7844NBG4
designator U?
12-Bit, 8-Channel Serial Output Sampling ADC, -40 to 85 degC, 20-pin SOP (DB20), Green (RoHS & no Sb/Br); Manufacturer: Texas Instruments; PartNumber: ADS7844NBG4; # Input Channels: 8; Analog Voltage AV/DD(Max)(V): 5.25; Analog Voltage AV/DD(Min)(V): 2.7; Architecture: SAR; INL(Max)(+/-LSB): 1; Interface: Serial SPI; Resolution(Bits): 12; Sample Rate (max)(SPS): 200K; SFDR(dB): 78; SINAD(dB): 72; SubFamily: Precision ADC (<=10MSPS); DatasheetVersion: SBAS100A; PackageVersion: 4040065/E, 12/2001; PackageReference: DB20; PackageDescription: 20-Pin Plastic Small Outline, Body 5.3 x 7.2 mm, Pitch 0.65 mm; Supplier 1: Digi-Key; Supplier Part Number 1: TLV2544CPWG4-ND; Digital Supply(Max)(V): 5.25; Digital Supply(Min)(V): 2.7; Eco-Plan: Green (RoHS & no Sb/Br); SNR(dB): 72; Mounting Technology: Surface Mount; Code_JEDEC: MO-150; ComponentLink1Description: Manufacturer URL; ComponentLink1URL: http://www.ti.com/; ComponentLink2Description: Datasheet; ComponentLink2URL: http://www.ti.com/general/docs/lit/getliterature.tsp?genericPartNumber=ADS7844&fileType=pdf; ComponentLink3Description: Package Specification; ComponentLink3URL: http://www.ti.com/lit/ml/msso002e/msso002e.pdf
footprint TI-DB20_N (SOP, 20-Leads, Body 7.2x5.3mm, Pitch 0.65mm, IPC Medium Density)
footprint TI-DB20_L (SOP, 20-Leads, Body 7.2x5.3mm, Pitch 0.65mm, IPC High Density)
footprint TI-DB20_M (SOP, 20-Leads, Body 7.2x5.3mm, Pitch 0.65mm, IPC Low Density)
pins: 1 CH0 (in) "Analog Input Channel 0.", 2 CH1 (in) "Analog Input Channel 1.", 3 CH2 (in) "Analog Input Channel 2.", 4 CH3 (in) "Analog Input Channel 3.", 5 CH4 (in) "Analog Input Channel 4.", 6 CH5 (in) "Analog Input Channel 5.", 7 CH6 (in) "Analog Input Channel 6.", 8 CH7 (in) "Analog Input Channel 7.", 9 COM (power) "Ground reference for analog inputs. Sets zero code voltage in single ended mode. Connect this pin to ground or ground reference point.", 10 ~{SHDN} (in) "Shutdown. When LOW, the device enters a very low power shutdown mode.", 11 VREF (in) "Voltage Reference Input. See Specification Table for ranges.", 12 VCC+ (power) "Power Supply, 2.7V to 5V.", 13 GND (power) "Ground", 14 GND (power) "Ground", 15 DOUT (hiz) "Serial Data Output. Data is shifted on the falling edge of DCLK. This output is high impedance when C\S\ is high.", 16 BUSY (hiz) "Busy Output. Busy goes low when the DIN control bits are being read and also when the device is converting. The Output is high impedance when C\S\ is High.", 17 DIN (in) "Serial Data Input. If C\S\ is LOW, data is latched on rising edge of DCLK.", 18 ~{CS} (in) "Chip Select Input. Active LOW. Data will not be clocked into DIN unless C\S\ is low. When C\S\ is high DOUT is high impedance", 19 CLK (in) "External Clock Input. The clock speed determines the conversion rate by the equation fCLK = 16 x fSAMPLE.", 20 VCC+ (power) "Power Supply"

## ADS7844NG4
designator U?
12-Bit, 8-Channel Serial Output Sampling ADC, -40 to 85 degC, 20-pin SOP (DB20), Green (RoHS & no Sb/Br); Manufacturer: Texas Instruments; PartNumber: ADS7844NG4; # Input Channels: 8; Analog Voltage AV/DD(Max)(V): 5.25; Analog Voltage AV/DD(Min)(V): 2.7; Architecture: SAR; INL(Max)(+/-LSB): 2; Interface: Serial SPI; Resolution(Bits): 12; Sample Rate (max)(SPS): 200K; SFDR(dB): 76; SINAD(dB): 71; SNR(dB): 72; SubFamily: Precision ADC (<=10MSPS); DatasheetVersion: SBAS100A; PackageVersion: 4040065/E, 12/2001; PackageReference: DB20; PackageDescription: 20-Pin Plastic Small Outline, Body 5.3 x 7.2 mm, Pitch 0.65 mm; Supplier 1: Digi-Key; Supplier Part Number 1: TLV2544CPWR-ND; Digital Supply(Max)(V): 5.25; Digital Supply(Min)(V): 2.7; Eco-Plan: Green (RoHS & no Sb/Br); Mounting Technology: Surface Mount; Code_JEDEC: MO-150; ComponentLink1Description: Manufacturer URL; ComponentLink1URL: http://www.ti.com/; ComponentLink2Description: Datasheet; ComponentLink2URL: http://www.ti.com/general/docs/lit/getliterature.tsp?genericPartNumber=ADS7844&fileType=pdf; ComponentLink3Description: Package Specification; ComponentLink3URL: http://www.ti.com/lit/ml/msso002e/msso002e.pdf
footprint TI-DB20_N (SOP, 20-Leads, Body 7.2x5.3mm, Pitch 0.65mm, IPC Medium Density)
footprint TI-DB20_L (SOP, 20-Leads, Body 7.2x5.3mm, Pitch 0.65mm, IPC High Density)
footprint TI-DB20_M (SOP, 20-Leads, Body 7.2x5.3mm, Pitch 0.65mm, IPC Low Density)
pins: 1 CH0 (in) "Analog Input Channel 0.", 2 CH1 (in) "Analog Input Channel 1.", 3 CH2 (in) "Analog Input Channel 2.", 4 CH3 (in) "Analog Input Channel 3.", 5 CH4 (in) "Analog Input Channel 4.", 6 CH5 (in) "Analog Input Channel 5.", 7 CH6 (in) "Analog Input Channel 6.", 8 CH7 (in) "Analog Input Channel 7.", 9 COM (power) "Ground reference for analog inputs. Sets zero code voltage in single ended mode. Connect this pin to ground or ground reference point.", 10 ~{SHDN} (in) "Shutdown. When LOW, the device enters a very low power shutdown mode.", 11 VREF (in) "Voltage Reference Input. See Specification Table for ranges.", 12 VCC+ (power) "Power Supply, 2.7V to 5V.", 13 GND (power) "Ground", 14 GND (power) "Ground", 15 DOUT (hiz) "Serial Data Output. Data is shifted on the falling edge of DCLK. This output is high impedance when C\S\ is high.", 16 BUSY (hiz) "Busy Output. Busy goes low when the DIN control bits are being read and also when the device is converting. The Output is high impedance when C\S\ is High.", 17 DIN (in) "Serial Data Input. If C\S\ is LOW, data is latched on rising edge of DCLK.", 18 ~{CS} (in) "Chip Select Input. Active LOW. Data will not be clocked into DIN unless C\S\ is low. When C\S\ is high DOUT is high impedance", 19 CLK (in) "External Clock Input. The clock speed determines the conversion rate by the equation fCLK = 16 x fSAMPLE.", 20 VCC+ (power) "Power Supply"

## ADS7852Y/2K
designator U?
12-Bit, 8-Channel, Parallel Output ADC, -40 to 85 degC, 32-pin QFP (PBS32), Green (RoHS & no Sb/Br); Manufacturer: Texas Instruments; PartNumber: ADS7852Y/2K; # Input Channels: 8; Analog Voltage AV/DD(Max)(V): 5.25; Analog Voltage AV/DD(Min)(V): 4.75; Architecture: SAR; INL(Max)(+/-LSB): 2; Interface: Parallel CMOS; Resolution(Bits): 12; Sample Rate (max)(SPS): 500K; SFDR(dB): 74; SINAD(dB): 70; SNR(dB): 72; SubFamily: Precision ADC (<=10MSPS); DatasheetVersion: SBAS111C; PackageVersion: 4087735/B, 07/2005; PackageReference: PBS32; PackageDescription: 32-Pin Plastic Flat Pack, Body 5 X 5 mm, Pitch 0.5 mm; Supplier 1: Digi-Key; Supplier Part Number 1: TLV2544CPWRG4-ND; Digital Supply(Max)(V): 5.25; Digital Supply(Min)(V): 4.75; Eco-Plan: Green (RoHS & no Sb/Br); Mounting Technology: Surface Mount; Code_JEDEC: MS-026; ComponentLink1Description: Manufacturer URL; ComponentLink1URL: http://www.ti.com/; ComponentLink2Description: Datasheet; ComponentLink2URL: http://www.ti.com/general/docs/lit/getliterature.tsp?genericPartNumber=ADS7852&fileType=pdf; ComponentLink3Description: Package Specification; ComponentLink3URL: http://www.ti.com/lit/ml/mpqf027a/mpqf027a.pdf
footprint TI-PBS32_N (QFP, 32-Leads, Body 5x5mm, Pitch 0.5mm, IPC Medium Density)
footprint TI-PBS32_L (QFP, 32-Leads, Body 5x5mm, Pitch 0.5mm, IPC High Density)
footprint TI-PBS32_M (QFP, 32-Leads, Body 5x5mm, Pitch 0.5mm, IPC Low Density)
pins: 1 AIN0 (in) "Analog Input Channel 0", 2 AIN1 (in) "Analog Input Channel 1", 3 AIN2 (in) "Analog Input Channel 2", 4 AIN3 (in) "Analog Input Channel 3", 5 AIN4 (in) "Analog Input Channel 4", 6 AIN5 (in) "Analog Input Channel 5", 7 AIN6 (in) "Analog Input Channel 6", 8 AIN7 (in) "Analog Input Channel 7", 9 AGND (power) "Analog Ground, GND = 0V", 10 VREF (io) "Voltage Reference Input and Output. See Electrical Characteristics table for ranges.Decouple to ground with a 0.1uF ceramic capacitor and a 2.2uF tantalum capacitor.", 11 DGND (power) "Digital Ground, GND = 0V", 12 A2 (in) "Channel Address. See Channel Selection Table for details.", 13 A1 (in) "Channel Address. See Channel Selection Table for details.", 14 A0 (in) "Channel Address. See Channel Selection Table for details.", 15 DB11 (hiz) "Data Bit 11 (MSB)", 16 DB10 (hiz) "Data Bit 10", 17 DB9 (hiz) "Data Bit 9", 18 DB8 (hiz) "Data Bit 8", 19 DB7 (hiz) "Data Bit 7", 20 DB6 (hiz) "Data Bit 6", 21 DB5 (hiz) "Data Bit 5", 22 DB4 (hiz) "Data Bit 4", 23 DB3 (hiz) "Data Bit 3", 24 DB2 (hiz) "Data Bit 2", 25 DB1 (hiz) "Data Bit 1", 26 DB0 (hiz) "Data Bit 0 (LSB)", 27 ~{WR} (in) "Write Input. Active LOW. Use to start a new conversion and to select an analog channel via address inputs A0, A1 and A2 in combination with C\S\.", 28 ~{BUSY} (out) "B\U\S\Y\ output goes LOW and stays LOW during a conversion. B\U\S\Y\ rises when a conversion is complete.", 29 CLK (in) "External Clock Input. The clock speed determines the conversion rate by the equation: fCLK = 16 X fSAMPLE.", 30 ~{RD} (in) "Read Input. Active LOW. Use to read the data outputs in combination with C\S\. Also use (in conjunction with A0 or A1) to place device in power-down mode.", 31 ~{CS} (in) "Chip Select Input. Active LOW. The combination of C\S\ taken LOW and W\R\ taken LOW initiates a new conversion and places the outputs in tri-state mode.", 32 VSS (power) "Voltage Supply Input. Nominally +5V. Decouple to ground with a 0.1uF ceramic capacitor and a 10uF tantalum capacitor."